# EAGLE library part ESP32DEVKITV1 (library ESP32-DEVKITV1)
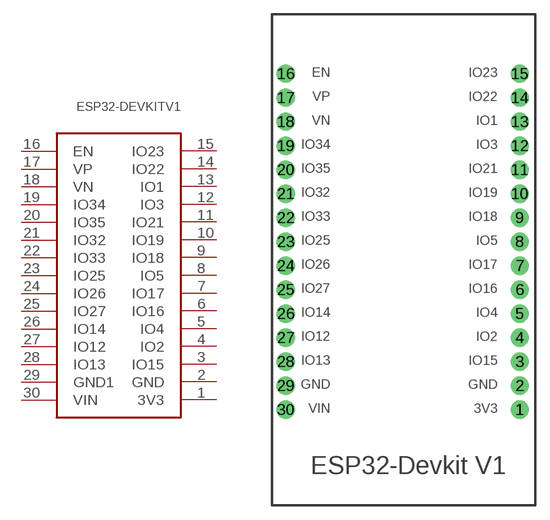
[diagram p0: symbol with the pads of ESP32-DEVKITV1; footprint ESP32-DEVKITV1]

Designator prefix -

## ESP32DEVKITV1  [ESP32-DEVKITV1]
1  3V3
2  GND
3  IO15
4  IO2
5  IO4
6  IO16
7  IO17
8  IO5
9  IO18
10  IO19
11  IO21
12  IO3
13  IO1
14  IO22
15  IO23
16  EN
17  VP
18  VN
19  IO34
20  IO35
21  IO32
22  IO33
23  IO25
24  IO26
25  IO27
26  IO14
27  IO12
28  IO13
29  GND1
30  VIN

## Footprint ESP32-DEVKITV1 (pad centres in mm)
drill 1 pad 1.93: 1 11,-13.98; 2 11,-11.44; 3 11,-8.9; 4 11,-6.36; 5 11,-3.82; 6 11,-1.28; 7 11,1.26; 8 11,3.8; 9 11,6.34; 10 11,8.88; 11 11,11.42; 12 11,13.96; 13 11,16.5; 14 11,19.04; 15 11,21.58; 16 -13.77,21.58; 17 -13.77,19.04; 18 -13.77,16.5; 19 -13.77,13.96; 20 -13.77,11.42; 21 -13.77,8.88; 22 -13.77,6.34; 23 -13.77,3.8; 24 -13.77,1.26; 25 -13.77,-1.28; 26 -13.77,-3.82; 27 -13.77,-6.36; 28 -13.77,-8.9; 29 -13.77,-11.44; 30 -13.77,-13.98